# EAGLE library part USB-TYPE-C-31-M-12 (library angrypig7-Connectors-USB)
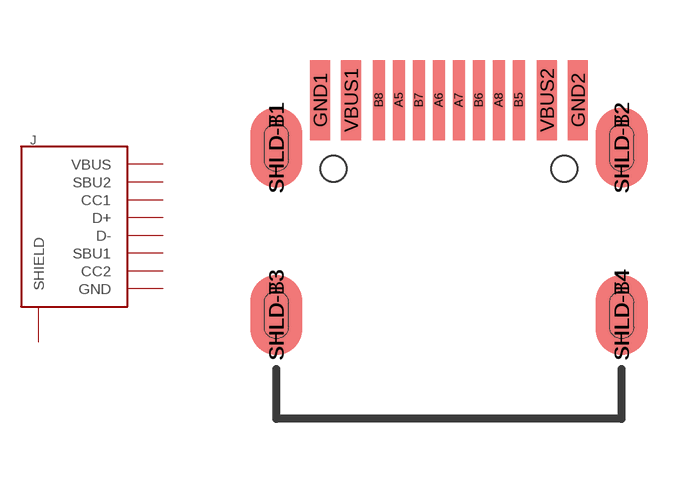
[diagram p2: symbol with the pads of USB-TYPE-C-31-M-12; footprint USB-TYPE-C-31-M-12]

Designator prefix J

## USB-TYPE-C-31-M-12 (LCSC: C165948)  [USB-TYPE-C-31-M-12]
A5  CC1
A6  D+
A7  D-
A8  SBU1
B5  CC2
B6  D+
B7  D-
B8  SBU2
GND1  GND
GND2  GND
SHLD-B1  SHIELD
SHLD-B2  SHIELD
SHLD-B3  SHIELD
SHLD-B4  SHIELD
SHLD-T1  SHIELD
SHLD-T2  SHIELD
SHLD-T3  SHIELD
SHLD-T4  SHIELD
VBUS1  VBUS
VBUS2  VBUS

## Footprint USB-TYPE-C-31-M-12 (pad centres in mm)
smd 0.3 x 2: A5 -1.25,1.19; A6 -0.25,1.19; A7 0.25,1.19; A8 1.25,1.19; B5 1.75,1.19; B6 0.75,1.19; B7 -0.75,1.19; B8 -1.75,1.19
smd 0.5 x 2: GND1 -3.225,1.19; GND2 3.225,1.19; VBUS1 -2.45,1.19; VBUS2 2.45,1.19
smd 1.3 x 2 bottom: SHLD-B1 -4.32,0; SHLD-B2 4.32,0; SHLD-B3 -4.32,-4.18; SHLD-B4 4.32,-4.18
smd 1.3 x 2: SHLD-T1 -4.32,0; SHLD-T2 4.32,0; SHLD-T3 -4.32,-4.18; SHLD-T4 4.32,-4.18
hole 0.65 at -2.89,-0.53
hole 0.65 at 2.89,-0.53